# Altium footprint library PLD-12R.PcbLib: 1 footprints
Each footprint in its own frame and in the unit in brackets; x right, y up, seen from the top. Pads: shape width x height; smd on the part's side, far side on the other; paste and mask are expansions set on the pad; w line width, h text height; cw(c..) or ccw(c..) is an arc to the next point about the centre after c.
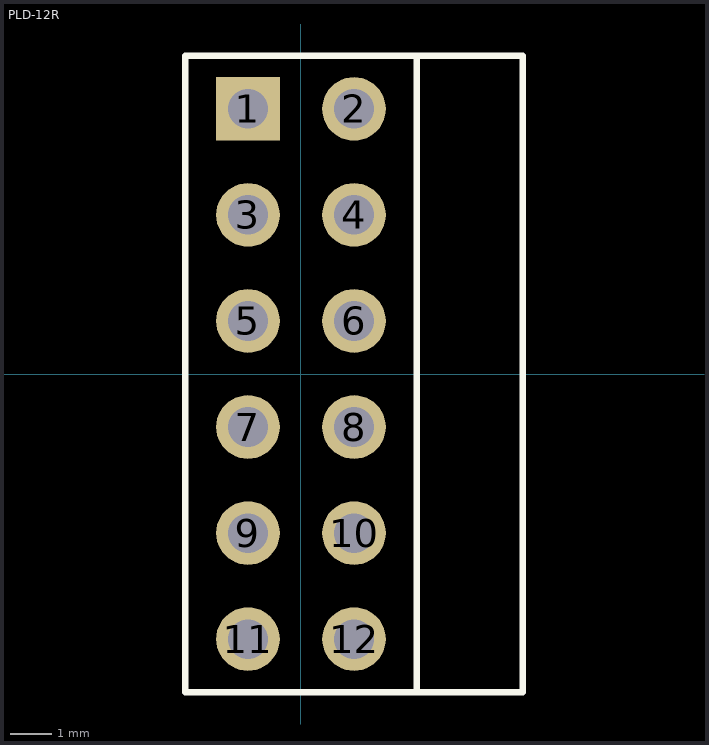
[diagram p0: the footprint, top view; thin cyan lines are the x and y axes]

## PLD-12R [mil] "Header 12-pin 2.54mm pitch right angle"
pads (12):
  rect 60x60 hole 37.4: 1(-50,250)
  round 60 hole 37.4: 2(50,250) 3(-50,150) 4(50,150) 5(-50,50) 6(50,50) 7(-50,-50) 8(50,-50) 9(-50,-150) 10(50,-150) 11(-50,-250) 12(50,-250)
Top Overlay:
  lines w5.91: 109.06,-300 -109.06,-300 -109.06,300 109.06,300 ; 109.06,-300 109.06,300 ; 109.06,-300 209.06,-300 209.06,300 109.06,300
3D body "PLD-12R.step": height 198.43, standoff -116.54, extent -63,-300 523.61,300.2